# Altium schematic symbol library DC_DC_12V_2W.SchLib: 1 symbol
Pins are listed as number, name and electrical type; pins without a type are passive.

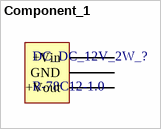
[diagram p0: symbol Component_1]

## Component_1
designator DC_DC_12V_2W_?, comment R-78C12-1.0
Non-Isolated DC/DC Converters CONV DC/DC 1A 15-42VIN 12VOUT
footprint PCBComponent_1
pins: 1 +Vin, 2 GND, 3 +Vout